# Altium footprint library CTS-L320HW250H080-4.PcbLib: 1 footprints
Each footprint in its own frame and in the unit in brackets; x right, y up, seen from the top. Pads: shape width x height; smd on the part's side, far side on the other; paste and mask are expansions set on the pad; w line width, h text height; cw(c..) or ccw(c..) is an arc to the next point about the centre after c.
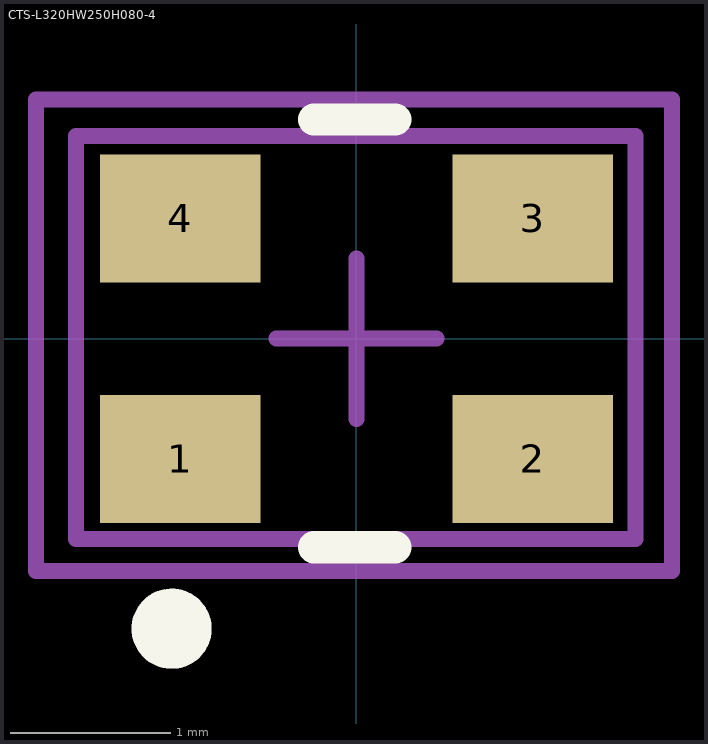
[diagram p0: the footprint, top view; thin cyan lines are the x and y axes]

## CTS-L320HW250H080-4 [mm] "Quartz Crystal, Body 3.2 x 2.5 mm, Height 0.8mm"
height 0.787
pads (4):
  rect 1x0.8 smd: 1(-1.1,-0.75) 2(1.1,-0.75) 3(1.1,0.75) 4(-1.1,0.75)
Top Overlay:
  circle w0.25: c-1.153,-1.809 r0.125
  lines w0.2: -0.266,-1.301 0.242,-1.301 ; -0.266,1.366 0.242,1.366
Mechanical 13:
  lines w0.1: -1.75,-1.25 1.741,-1.25 1.741,1.264 -1.75,1.264 -1.75,-1.25
Mechanical 15:
  lines w0.1: -0.5,0 0.5,0 ; 0,-0.5 0,0.5 ; -2,-1.45 -2,1.493 1.969,1.493 1.969,-1.45 -2,-1.45
3D body: height 0.81, standoff 0, extent -1.561,-1.281 1.639,1.219